# EAGLE library part MX25R6435F (library MX25R6435F)
MX25R6435F Digikey: ‎1092-1173-ND‎‏
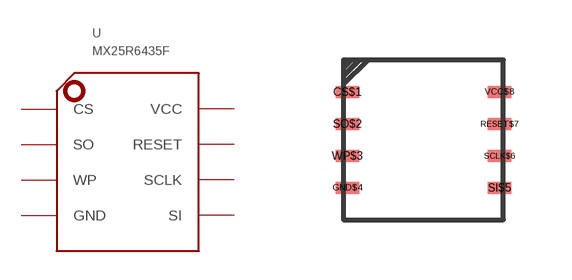
[diagram p0: symbol with the pads of 8-USON_MX25R6435F; footprint 8-USON_MX25R6435F]

Designator prefix -

## MX25R6435F  [8-USON_MX25R6435F]
CS$1  CS
GND$4  GND
RESET$7  RESET
SCLK$6  SCLK
SI$5  SI
SO$2  SO
VCC$8  VCC
WP$3  WP

## Footprint 8-USON_MX25R6435F (pad centres in mm)
MX25R6435F Digikey:‏‎1092-1173-ND‎‏
smd 0.6 x 0.3: CS$1 -1.9,1.2; GND$4 -1.9,-1.2; RESET$7 1.9,0.4; SCLK$6 1.9,-0.4; SI$5 1.9,-1.2; SO$2 -1.9,0.4; VCC$8 1.9,1.2; WP$3 -1.9,-0.4